# Altium schematic symbol library switches.SchLib: 15 symbols
Pins are listed as number, name and electrical type; pins without a type are passive.

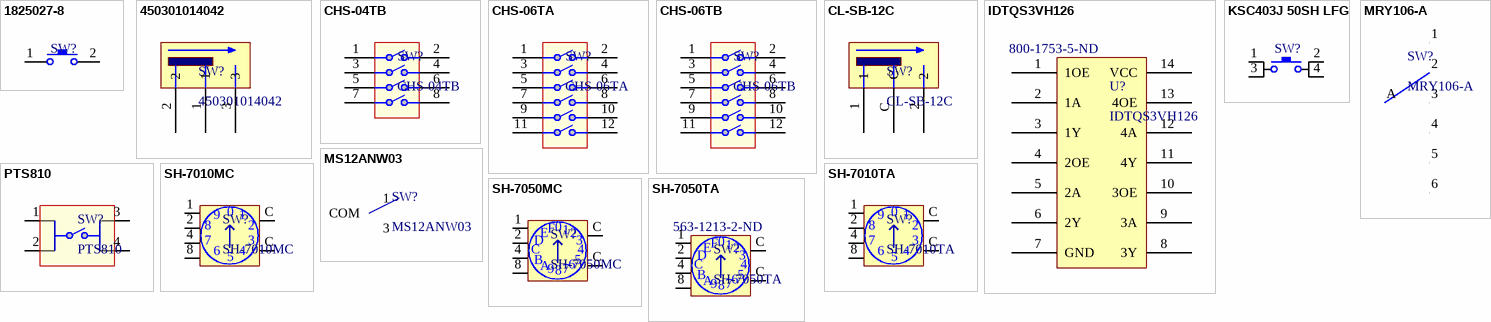
[diagram p0: symbols 1825027-8 to SH-7050TA]

## 1825027-8
designator SW?  (value not drawn)
SWITCH TACTILE SPST-NO 0.05A 24V; Supplier 1: Digi-Key; Supplier Part Number 1: 450-1657-ND
footprint 1825027-8 (SWITCH TACTILE SPST-NO 0.05A 24V)
pins: 1, 2

## 450301014042
designator SW?
Slide switch, SPDT, 500 mA, 12 V; Supplier 1: Digi-Key; Supplier Part Number 1: 450301014042-ND
footprint 450301014042 (SPDT switch)
pins: 1, 2, 3

## CHS-04TB
designator SW?
SLIDE SWITCHES; Supplier 1: Digi-Key; Supplier Part Number 1: 563-1008-1-ND
footprint CHS04TB (4 POS DIP SWITCH)
pins: 1, 2, 3, 4, 5, 6, 7, 8

## CHS-06TA
designator SW?
SLIDE SWITCHES; Supplier 1: Digi-Key; Supplier Part Number 1: 563-1009-1-ND
footprint CHS-06TA (6 POS DIP SWITCH)
pins: 1, 2, 3, 4, 5, 6, 7, 8, 9, 10, 11, 12

## CHS-06TB
designator SW?
SLIDE SWITCHES; Supplier 1: Digi-Key; Supplier Part Number 1: 563-1010-1-ND
footprint CHS-06TB (6 POS DIP SWITCH)
pins: 1, 2, 3, 4, 5, 6, 7, 8, 9, 10, 11, 12

## CL-SB-12C
designator SW?
SPST Slide switch; Supplier 1: Digi-Key; Supplier Part Number 1: 563-1322-ND
footprint CL-SB-12C (SPST Slide though hole slide switch)
pins: 1, 2, C

## IDTQS3VH126
designator U?  Supplier Part Number 1: 800-1753-5-ND
2.5V / 3.3V QUAD ACTIVE  HIGH, HIGH BANDWIDTH SWITCH; Supplier 1: Digi-Key
footprint SOIC-14 (SOIC, 14-Leads, Body 8.65x3.90mm, Pitch 1.27mm, IPC Medium Density)
pins: 1 1OE, 2 1A, 3 1Y, 4 2OE, 5 2A, 6 2Y, 7 GND, 8 3Y, 9 3A, 10 3OE, 11 4Y, 12 4A, 13 4OE, 14 VCC

## KSC403J 50SH LFG
designator SW?  (value not drawn)
Tactile SPST Switch; Supplier 1: Digi-Key; Supplier Part Number 1: 401-1776-1-ND
footprint KSC403 (KSC403 Series switch)
pins: 1, 2, 3, 4

## MRY106-A
designator SW?
SW ROTARY SP BLK KNOB 125V; Supplier 1: Digi-Key; Supplier Part Number 1: 360-2379-ND
footprint MRY switch
pins: 1, 2, 3, 4, 5, 6, A

## MS12ANW03
designator SW?
SPDT slide switch; current: 6 A; Supplier 1: Digi-Key; Supplier Part Number 1: 360-2385-ND
footprint MS12ANW03 (SPDT slide switch)
pins: 1, 2 COM, 3

## PTS810
designator SW?
Tactile Switches; Supplier 1: Digi-Key; Supplier Part Number 1: CKN10504CT-ND
footprint PTS810 (C & K PTS 810 Microminiature SMT)
pins: 1, 2, 3, 4

## SH-7010MC
designator SW?
ROTARY CODED SWITCHES; Supplier 1: Digi-Key; Supplier Part Number 1: 563-1218-5-ND
footprint SH-7000C
pins: 1, 2, 4, 8, C, C
text: 9; 0; 7; 3; 6; 5

## SH-7010TA
designator SW?
ROTARY CODED SWITCHES; Supplier 1: Digi-Key; Supplier Part Number 1: 563-1207-1-ND
footprint SH-7000A (Rotary Coded Switch, SH-7000A series)
pins: 1, 2, 4, 8, C, C
text: 9; 0; 7; 3; 6; 5

## SH-7050MC
designator SW?
ROTARY CODED SWITCHES; Supplier 1: Digi-Key; Supplier Part Number 1: 563-1220-5-ND
footprint SH-7000C
pins: 1, 2, 4, 8, C, C
text: F; 0; E; D; 3; B; 5; A; 6; 9; 7

## SH-7050TA
designator SW?  Supplier Part Number 1: 563-1213-2-ND
ROTARY CODED SWITCHES; Supplier 1: Digi-Key
footprint SH-7000A (Rotary Coded Switch, SH-7000A series)
pins: 1, 2, 4, 8, C, C
text: F; 0; E; D; 3; B; 5; A; 6; 9; 7